# Altium schematic symbol library УГО.SchLib: 43 symbols
Pins are listed as number, name and electrical type; pins without a type are passive.

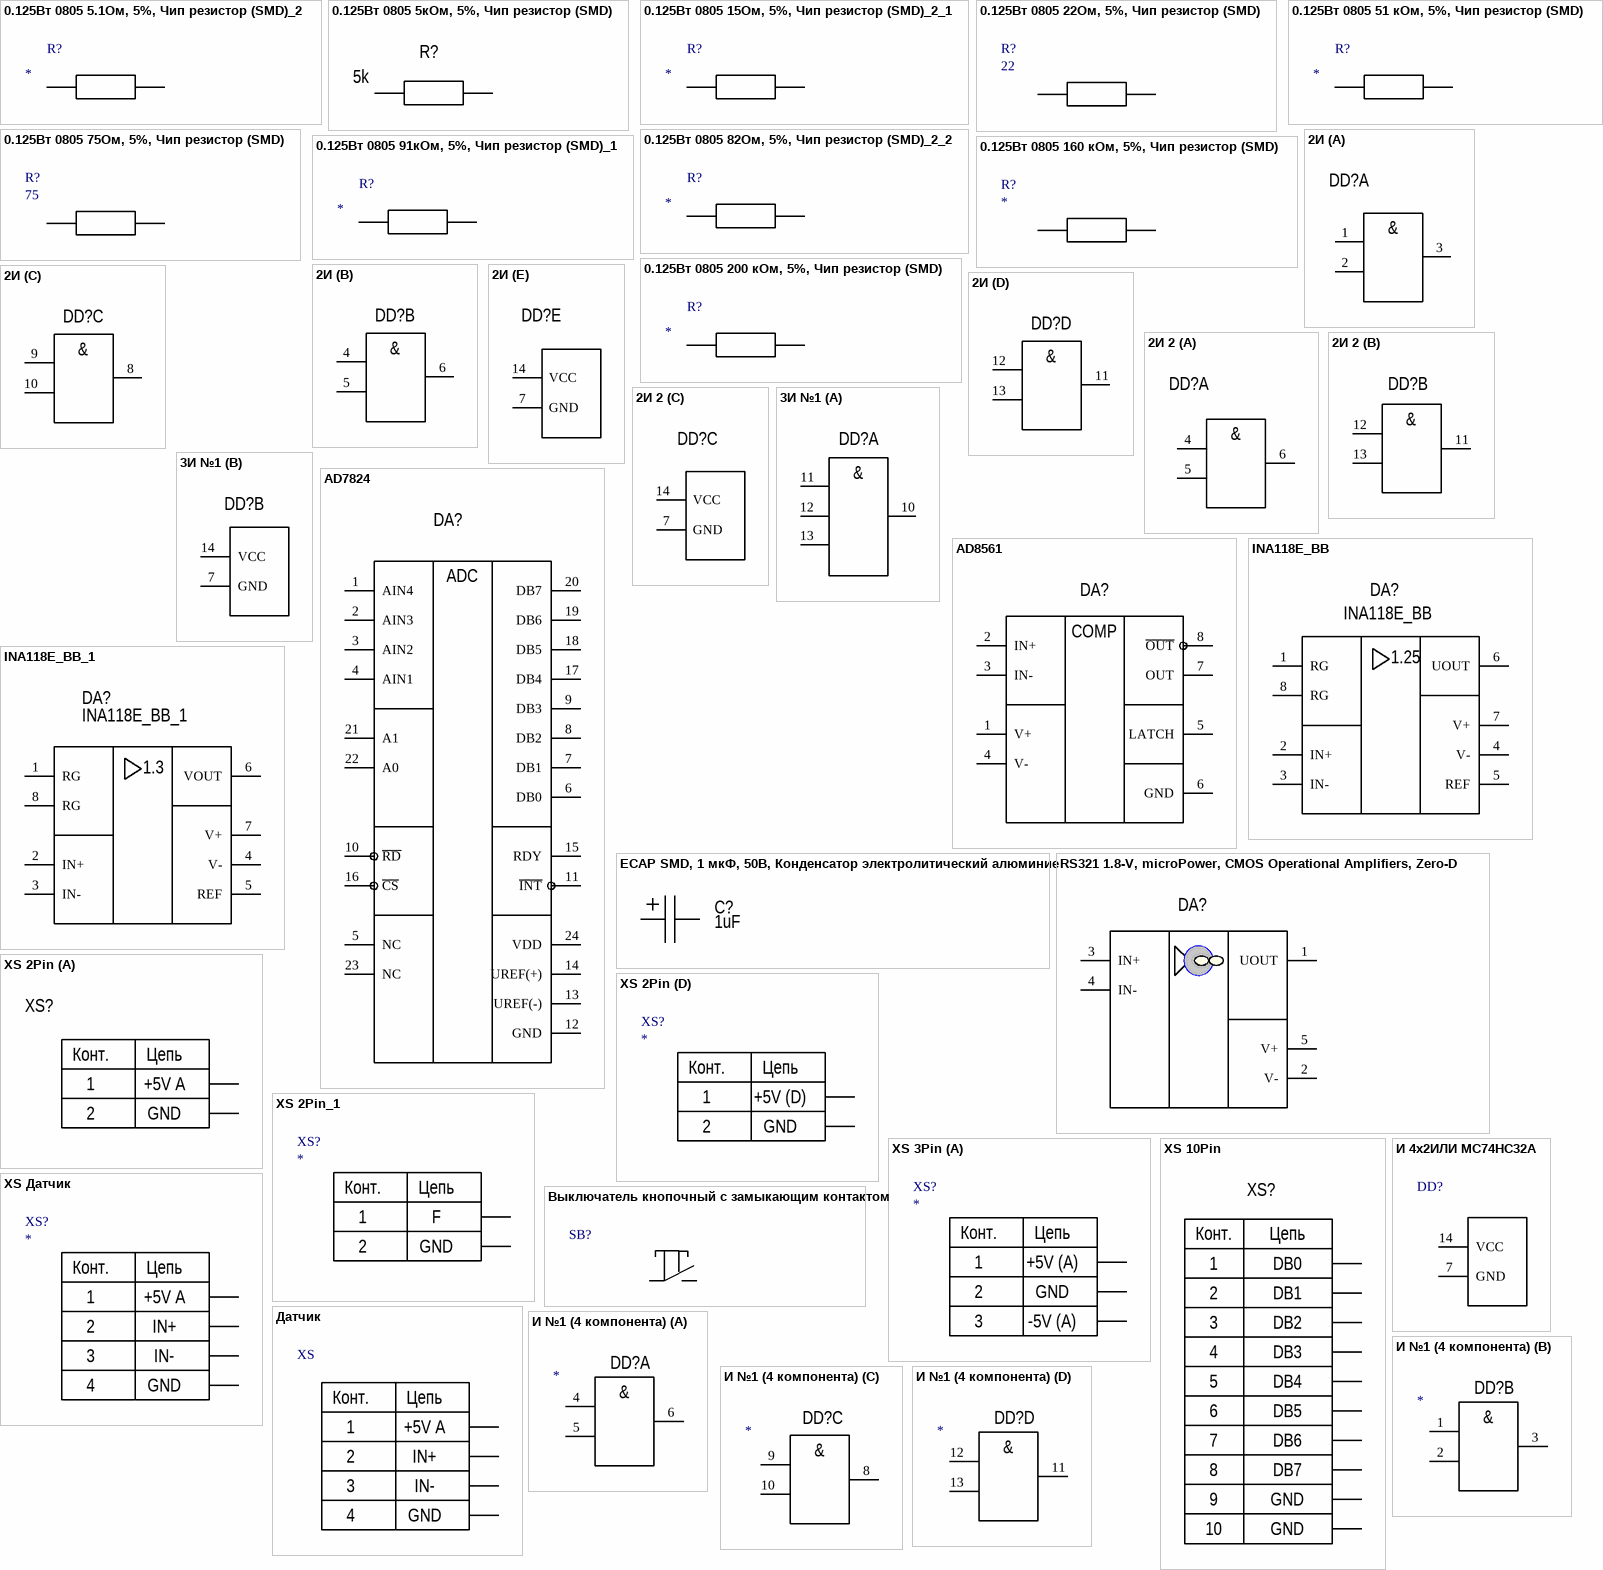
[diagram p0: symbols 0.125Вт 0805 5.1Ом, 5%, Чип резистор (SMD)_2 to И №1 (4 компонента)]

## 0.125Вт 0805 5.1Ом, 5%, Чип резистор (SMD)_2
designator R?
0.125Вт 0805 5.1Ом, 5%, Чип резистор (SMD)
footprint 0.125Вт 0805 5.1Ом, 5%, Чип резистор (SMD)
pins: 1, 2

## 0.125Вт 0805 5кОм, 5%, Чип резистор (SMD)
designator R?, comment 5k
0.125Вт 0805 5кОм, 5%, Чип резистор (SMD)
footprint 0.125Вт 0805 3 кОм, 5%, Чип резистор (SMD)
pins: 1, 2

## 0.125Вт 0805 15Ом, 5%, Чип резистор (SMD)_2_1
designator R?
0.125Вт 0805 15Ом, 5%, Чип резистор (SMD)
footprint 0.125Вт 0805 15Ом, 5%, Чип резистор (SMD)
pins: 1, 2

## 0.125Вт 0805 22Ом, 5%, Чип резистор (SMD)
designator R?, comment 22
0.125Вт 0805 22Ом, 5%, Чип резистор (SMD)
footprint 0.125Вт 0805 22Ом, 5%, Чип резистор (SMD)
pins: 1, 2

## 0.125Вт 0805 51 кОм, 5%, Чип резистор (SMD)
designator R?
0.125Вт 0805 51 кОм, 5%, Чип резистор (SMD)
footprint 0.125Вт 0805 51 кОм, 5%, Чип резистор (SMD)
pins: 1, 2

## 0.125Вт 0805 75Ом, 5%, Чип резистор (SMD)
designator R?, comment 75
0.125Вт 0805 75Ом, 5%, Чип резистор (SMD)
footprint 0.125Вт 0805 75Ом, 5%, Чип резистор (SMD)
pins: 1, 2

## 0.125Вт 0805 82Ом, 5%, Чип резистор (SMD)_2_2
designator R?
0.125Вт 0805 82Ом, 5%, Чип резистор (SMD)
footprint 0.125Вт 0805 82Ом, 5%, Чип резистор (SMD)
pins: 1, 2

## 0.125Вт 0805 91кОм, 5%, Чип резистор (SMD)_1
designator R?
0.125Вт 0805 91Ом, 5%, Чип резистор (SMD)
footprint 0.125Вт 0805 91Ом, 5%, Чип резистор (SMD)
pins: 1, 2

## 0.125Вт 0805 160 кОм, 5%, Чип резистор (SMD)
designator R?
0.125Вт 0805 160 кОм, 5%, Чип резистор (SMD)
footprint 0.125Вт 0805 160 кОм, 5%, Чип резистор (SMD)
pins: 1, 2

## 0.125Вт 0805 200 кОм, 5%, Чип резистор (SMD)
designator R?
0.125Вт 0805 200 кОм, 5%, Чип резистор (SMD)
footprint 0.125Вт 0805 200 кОм, 5%, Чип резистор (SMD)
pins: 1, 2

## 2И
designator DD?  (value not drawn)
MC74ACT08DG, Логический элемент И, 74ACT08, 2 входа, 24мА, 4.5В до 5.5В, SOIC-14
footprint 4x2И (MC74ACT08DG, Логический элемент И, 74ACT08, 2 входа, 24мА, 4.5В до 5.5В, SOIC-14)
part A pins: 1, 2, 3
part B pins: 4, 5, 6
part C pins: 8, 9, 10
part D pins: 11, 12, 13
part E pins: 7 GND, 14 VCC
part A text: &
part B text: &
part C text: &
part D text: &

## 2И 2
designator DD?  (value not drawn)
MC74ACT08DG, Логический элемент И, 74ACT08, 2 входа, 24мА, 4.5В до 5.5В, SOIC-14
footprint 4x2И (MC74ACT08DG, Логический элемент И, 74ACT08, 2 входа, 24мА, 4.5В до 5.5В, SOIC-14)
part A pins: 4, 5, 6
part B pins: 11, 12, 13
part C pins: 7 GND, 14 VCC
part A text: &
part B text: &

## 3И №1
designator DD?  (value not drawn)
footprint 4x2И (MC74ACT08DG, Логический элемент И, 74ACT08, 2 входа, 24мА, 4.5В до 5.5В, SOIC-14)
part A pins: 10, 11, 12, 13
part B pins: 7 GND, 14 VCC
part A text: &

## AD7824
designator DA?  (value not drawn)
footprint AD7824 (SOIC, 24-Leads, Body 15,40x7,50mm, Pitch 1,27mm, IPC Medium Density)
pins: 1 AIN4, 2 AIN3, 3 AIN2, 4 AIN1, 5 NC, 6 DB0, 7 DB1, 8 DB2, 9 DB3, 10 ~{RD}, 11 ~{INT}, 12 GND, 13 UREF(-), 14 UREF(+), 15 RDY, 16 ~{CS}, 17 DB4, 18 DB5, 19 DB6, 20 DB7, 21 A1, 22 A0, 23 NC, 24 VDD
text: ADC

## AD8561
designator DA?  (value not drawn)
footprint AD8561 (SOIC, 8-Leads, Body 4,90x3,90mm, Pitch 1,27mm, IPC Medium Density)
pins: 1 V+, 2 IN+, 3 IN-, 4 V-, 5 LATCH, 6 GND, 7 OUT, 8 ~{OUT}
text: COMP

## ECAP SMD, 1 мкФ, 50В, Конденсатор электролитический алюминиевый SMD
designator C?, comment 1uF
ECAP SMD, 1 мкФ, 50В, Конденсатор электролитический алюминиевый SMD
footprint ECAP SMD, 1 мкФ, 50В, Конденсатор электролитический алюминиевый SMD
pins: 1, 2

## INA118E_BB
designator DA?
footprint AD620 Инструмент.усилитель (SOIC, 8-Leads, Body 4,90x3,90mm, Pitch 1,27mm, IPC Medium Density)
pins: 1 RG, 2 IN+, 3 IN-, 4 V-, 5 REF, 6 UOUT, 7 V+, 8 RG
text: 1.25

## INA118E_BB_1
designator DA?
footprint AD620 Инструмент.усилитель (SOIC, 8-Leads, Body 4,90x3,90mm, Pitch 1,27mm, IPC Medium Density)
pins: 1 RG, 2 IN+, 3 IN-, 4 V-, 5 REF, 6 VOUT, 7 V+, 8 RG
text: 1.3

## RS321 1.8-V, microPower, CMOS Operational Amplifiers, Zero-Drift Series
designator *, comment DA?
ОУ
footprint ОУ для источника тока (SOT23, 5-Leads, Body 2,90x2,80mm, Pitch 0,95mm, IPC Medium Density)
pins: 1 UOUT, 2 V-, 3 IN+, 4 IN-, 5 V+

## XS 2Pin (A)
designator XS?  (value not drawn)
footprint CI1102M1H  (F)
pins: 1 Pin1, 2 Pin2
text: Конт.; Цепь; +5V A; GND

## XS 2Pin (D)
designator XS?
footprint CI1102M1H  (F)
pins: 1 Pin1, 2 Pin2
text: Конт.; Цепь; +5V (D); GND

## XS 2Pin_1
designator XS?
footprint CI1102M1H  (F)
pins: 1 Pin1, 2 Pin2
text: Конт.; Цепь; F; GND

## XS 3Pin (A)
designator XS?
footprint CI1108M1H - duplicate
pins: 1 Pin1, 2 Pin2, 3 Pin3
text: Конт.; Цепь; +5V (A); GND; -5V (A)

## XS 10Pin
designator XS?  (value not drawn)
footprint CI1108M1H
pins: 1 Pin1, 2 Pin2, 3 Pin3, 4 Pin4, 5 Pin5, 6 Pin6, 7 Pin7, 8 Pin8, 9 Pin9, 10 Pin10
text: Конт.; Цепь; DB0; DB1; DB2; DB3; DB4; DB5; DB6; DB7; GND

## XS Датчик
designator XS?
footprint CI1102M1H
pins: 1 Pin1, 2 Pin2, 3, 4
text: Конт.; Цепь; +5V A; IN+; IN-; GND

## Выключатель кнопочный с замыкающим контактом
designator SB?  (value not drawn)
footprint Выключатель кнопочный ese21x (SOTFL, 3-Leads, Body 3,62x1,60mm, Pitch 1,50mm, IPC Medium Density)
pins: 1, 2

## Датчик
designator XS  (value not drawn)
footprint Датчик
pins: 1 Pin1, 2 Pin2, 3 Pin3, 3 Pin3, 4 Pin4
text: Конт.; Цепь; +5V A; IN+; IN-; GND

## И 4x2ИЛИ MC74HC32A
designator DD?  (value not drawn)
Питание для логики
footprint 4x2И (MC74ACT08DG, Логический элемент И, 74ACT08, 2 входа, 24мА, 4.5В до 5.5В, SOIC-14)
pins: 7 GND, 14 VCC

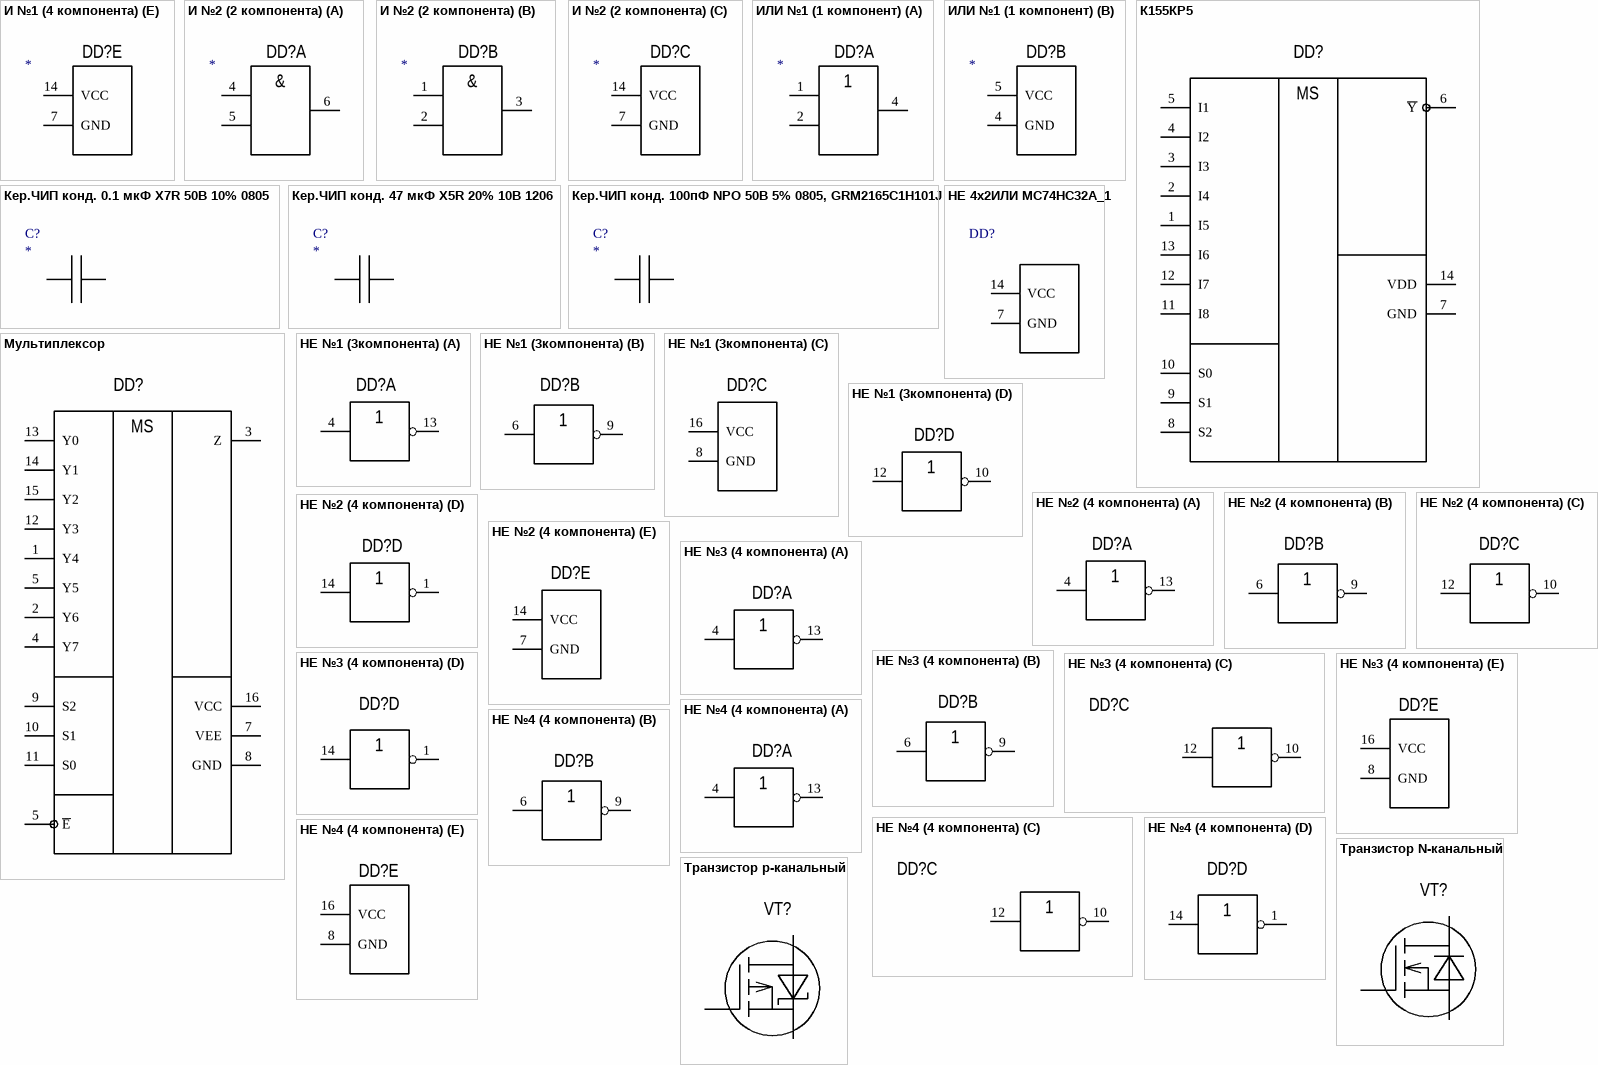
[diagram p1: symbols И №1 (4 компонента) to Транзистор р-канальный]

## И №1 (4 компонента)
designator DD?
footprint 4x2И (MC74ACT08DG, Логический элемент И, 74ACT08, 2 входа, 24мА, 4.5В до 5.5В, SOIC-14)
part A pins: 4, 5, 6
part B pins: 1, 2, 3
part C pins: 8, 9, 10
part D pins: 11, 12, 13
part E pins: 7 GND, 14 VCC
part A text: &
part B text: &
part C text: &
part D text: &

## И №2 (2 компонента)
designator DD?
footprint 4x2И (MC74ACT08DG, Логический элемент И, 74ACT08, 2 входа, 24мА, 4.5В до 5.5В, SOIC-14)
part A pins: 4, 5, 6
part B pins: 1, 2, 3
part C pins: 7 GND, 14 VCC
part A text: &
part B text: &

## ИЛИ №1 (1 компонент)
designator DD?
footprint ОУ для источника тока (SOT23, 5-Leads, Body 2,90x2,80mm, Pitch 0,95mm, IPC Medium Density)
part A pins: 1, 2, 4
part B pins: 4 GND, 5 VCC

## К155КР5
designator DD?  (value not drawn)
footprint К155КР5
pins: 1 I5, 2 I4, 3 I3, 4 I2, 5 I1, 6 ~{Y}, 7 GND, 8 S2, 9 S1, 10 S0, 11 I8, 12 I7, 13 I6, 14 VDD
text: MS

## Кер.ЧИП конд. 0.1 мкФ X7R 50В 10% 0805
designator C?
Кер.ЧИП конд. 0.1 мкФ X7R 50В 10% 0805
footprint Кер.ЧИП конд. 0.1 мкФ X7R 50В 10% 0805
pins: 1, 2

## Кер.ЧИП конд. 47 мкФ X5R 20% 10В 1206
designator C?
Кер.ЧИП конд. 47 мкФ X5R 20% 10В 1206
footprint Кер.ЧИП конд. 47 мкФ X5R 20% 10В 1206
pins: 1, 2

## Кер.ЧИП конд. 100пФ NPO 50В 5% 0805, GRM2165C1H101J
designator C?
Кер.ЧИП конд. 100пФ NPO 50В 5% 0805, GRM2165C1H101J
footprint Кер.ЧИП конд. 100пФ NPO 50В 5% 0805, GRM2165C1H101J
pins: 1, 2

## Мультиплексор
designator DD?  (value not drawn)
74HC40510
footprint Мультиплексор (TSOP, 16-Leads, Body 5,00x4,40mm, Pitch 0,65mm, IPC Medium Density)
pins: 1 Y4, 2 Y6, 3 Z, 4 Y7, 5 ~{E}, 5 Y5, 7 VEE, 8 GND, 9 S2, 10 S1, 11 S0, 12 Y3, 13 Y0, 14 Y1, 15 Y2, 16 VCC
text: MS

## НЕ 4x2ИЛИ MC74HC32A_1
designator DD?  (value not drawn)
Питание для логики
pins: 7 GND, 14 VCC

## НЕ №1 (3компонента)
designator DD?  (value not drawn)
footprint CD4044B (SOIC, 16-Leads, Body 10,30x7,50mm, Pitch 1,27mm, IPC Medium Density)
part A pins: 4, 13
part B pins: 6, 9
part C pins: 8 GND, 16 VCC
part D pins: 10, 12
part A text: 1
part B text: 1
part D text: 1

## НЕ №2 (4 компонента)
designator DD?  (value not drawn)
footprint CD4044B (SOIC, 16-Leads, Body 10,30x7,50mm, Pitch 1,27mm, IPC Medium Density)
part A pins: 4, 13
part B pins: 6, 9
part C pins: 10, 12
part D pins: 1, 14
part E pins: 7 GND, 14 VCC

## НЕ №3 (4 компонента)
designator DD?  (value not drawn)
footprint CD4044B (SOIC, 16-Leads, Body 10,30x7,50mm, Pitch 1,27mm, IPC Medium Density)
part A pins: 4, 13
part B pins: 6, 9
part C pins: 10, 12
part D pins: 1, 14
part E pins: 8 GND, 16 VCC

## НЕ №4 (4 компонента)
designator DD?  (value not drawn)
footprint CD4044B (SOIC, 16-Leads, Body 10,30x7,50mm, Pitch 1,27mm, IPC Medium Density)
part A pins: 4, 13
part B pins: 6, 9
part C pins: 10, 12
part D pins: 1, 14
part E pins: 8 GND, 16 VCC

## Транзистор N-канальный
designator VT?  (value not drawn)
SI2304DDS-T1-GE3
footprint Транзистор N-канальный (SOT23, 3-Leads, Body 2,92x2,45mm, Pitch 0,95mm, IPC Medium Density)
pins: 1 G, 2 S, 3 D

## Транзистор р-канальный
designator VT?  (value not drawn)
NTF2955T1G, МОП-транзистор, P Канал, 2.6 А, -60 В, 0.17 Ом, 20 В, -4 В
footprint Транзистор р-канальный (SOT223, 4-Leads, Body 6,50x7,00mm (avg), Pitch 2,30mm, IPC Medium Density)
pins: 1 G, 2 D, 3 S